# EAGLE library part QS32X245 (library dan-idt)
IDTQS32X2245 or IDTQS32XVH245
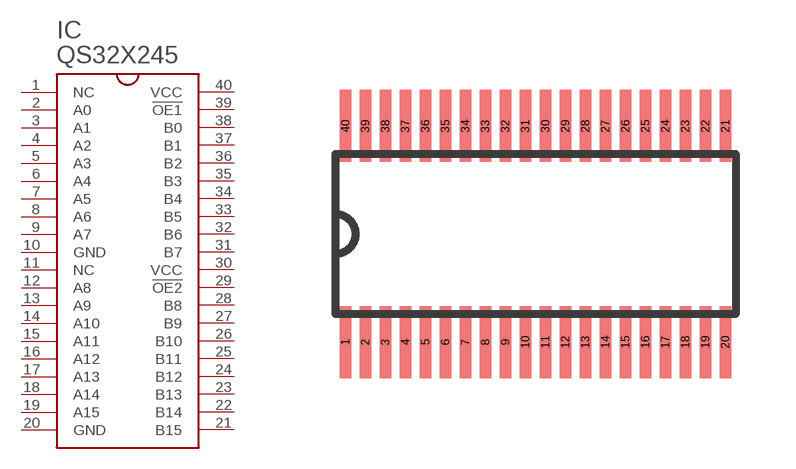
[diagram p0: symbol with the pads of QVSOP40; footprint QVSOP40]

Designator prefix IC

## QS32X245  [QVSOP40]
1  NC  nc
2  A0
3  A1
4  A2
5  A3
6  A4
7  A5
8  A6
9  A7
10  GND  pas
11  NC  nc
12  A8
13  A9
14  A10
15  A11
16  A12
17  A13
18  A14
19  A15
20  GND  pas
21  B15
22  B14
23  B13
24  B12
25  B11
26  B10
27  B9
28  B8
29  !OE2  in
30  VCC  pas
31  B7
32  B6
33  B5
34  B4
35  B3
36  B2
37  B1
38  B0
39  !OE1  in
40  VCC  pas

## Footprint QVSOP40 (pad centres in mm)
QVSOP 40 (DMG40) From: http://www.idt.com/?app=packaging&partID=QS32X2245Q2G&packageID=DMG40&mktseg=IDT
smd 0.297 x 1.8: 1 -4.75,-2.7; 2 -4.25,-2.7; 3 -3.75,-2.7; 4 -3.25,-2.7; 5 -2.75,-2.7; 6 -2.25,-2.7; 7 -1.75,-2.7; 8 -1.25,-2.7; 9 -0.75,-2.7; 10 -0.25,-2.7; 11 0.25,-2.7; 12 0.75,-2.7; 13 1.25,-2.7; 14 1.75,-2.7; 15 2.25,-2.7; 16 2.75,-2.7; 17 3.25,-2.7; 18 3.75,-2.7; 19 4.25,-2.7; 20 4.75,-2.7; 21 4.75,2.7; 22 4.25,2.7; 23 3.75,2.7; 24 3.25,2.7; 25 2.75,2.7; 26 2.25,2.7; 27 1.75,2.7; 28 1.25,2.7; 29 0.75,2.7; 30 0.25,2.7; 31 -0.25,2.7; 32 -0.75,2.7; 33 -1.25,2.7; 34 -1.75,2.7; 35 -2.25,2.7; 36 -2.75,2.7; 37 -3.25,2.7; 38 -3.75,2.7; 39 -4.25,2.7; 40 -4.75,2.7